# Altium footprint library 691 201 720 0xxS.PcbLib: 2 footprints
Each footprint in its own frame and in the unit in brackets; x right, y up, seen from the top. Pads: shape width x height; smd on the part's side, far side on the other; paste and mask are expansions set on the pad; w line width, h text height; cw(c..) or ccw(c..) is an arc to the next point about the centre after c.
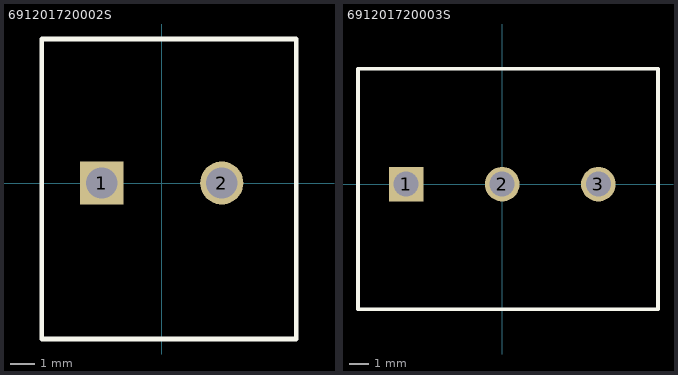
[diagram p0: the footprints below, top view; thin cyan lines are the x and y axes]

## 691201720002S [mm] "Serie 201S - 5.00 mm _ 2 pins"
height 12
pads (2):
  rect 1.8x1.8 hole 1.3: 1(-2.5,0)
  round 1.8 hole 1.3: 2(2.5,0)
Top Overlay:
  lines w0.2: -5,-6.5 5.6,-6.5 5.6,6 -5,6 -5,-6.5
3D body: height 12.1, standoff -4.4, extent -5,-6.55 5.6,5.95

## 691201720003S [mm] "Serie 201S - 5.00 mm _ 3 pins"
height 12
pads (3):
  rect 1.8x1.8 hole 1.3: 1(-5,0)
  round 1.8 hole 1.3: 2(0,0) 3(5,0)
Top Overlay:
  lines w0.2: -7.5,-6.5 8.1,-6.5 8.1,6 -7.5,6 -7.5,-6.5
3D body: height 12.1, standoff -4.4, extent -7.5,-6.45 8.1,6.05